# Altium integrated library Microchip Wireless.IntLib: 91 symbols (part 2 of 3)
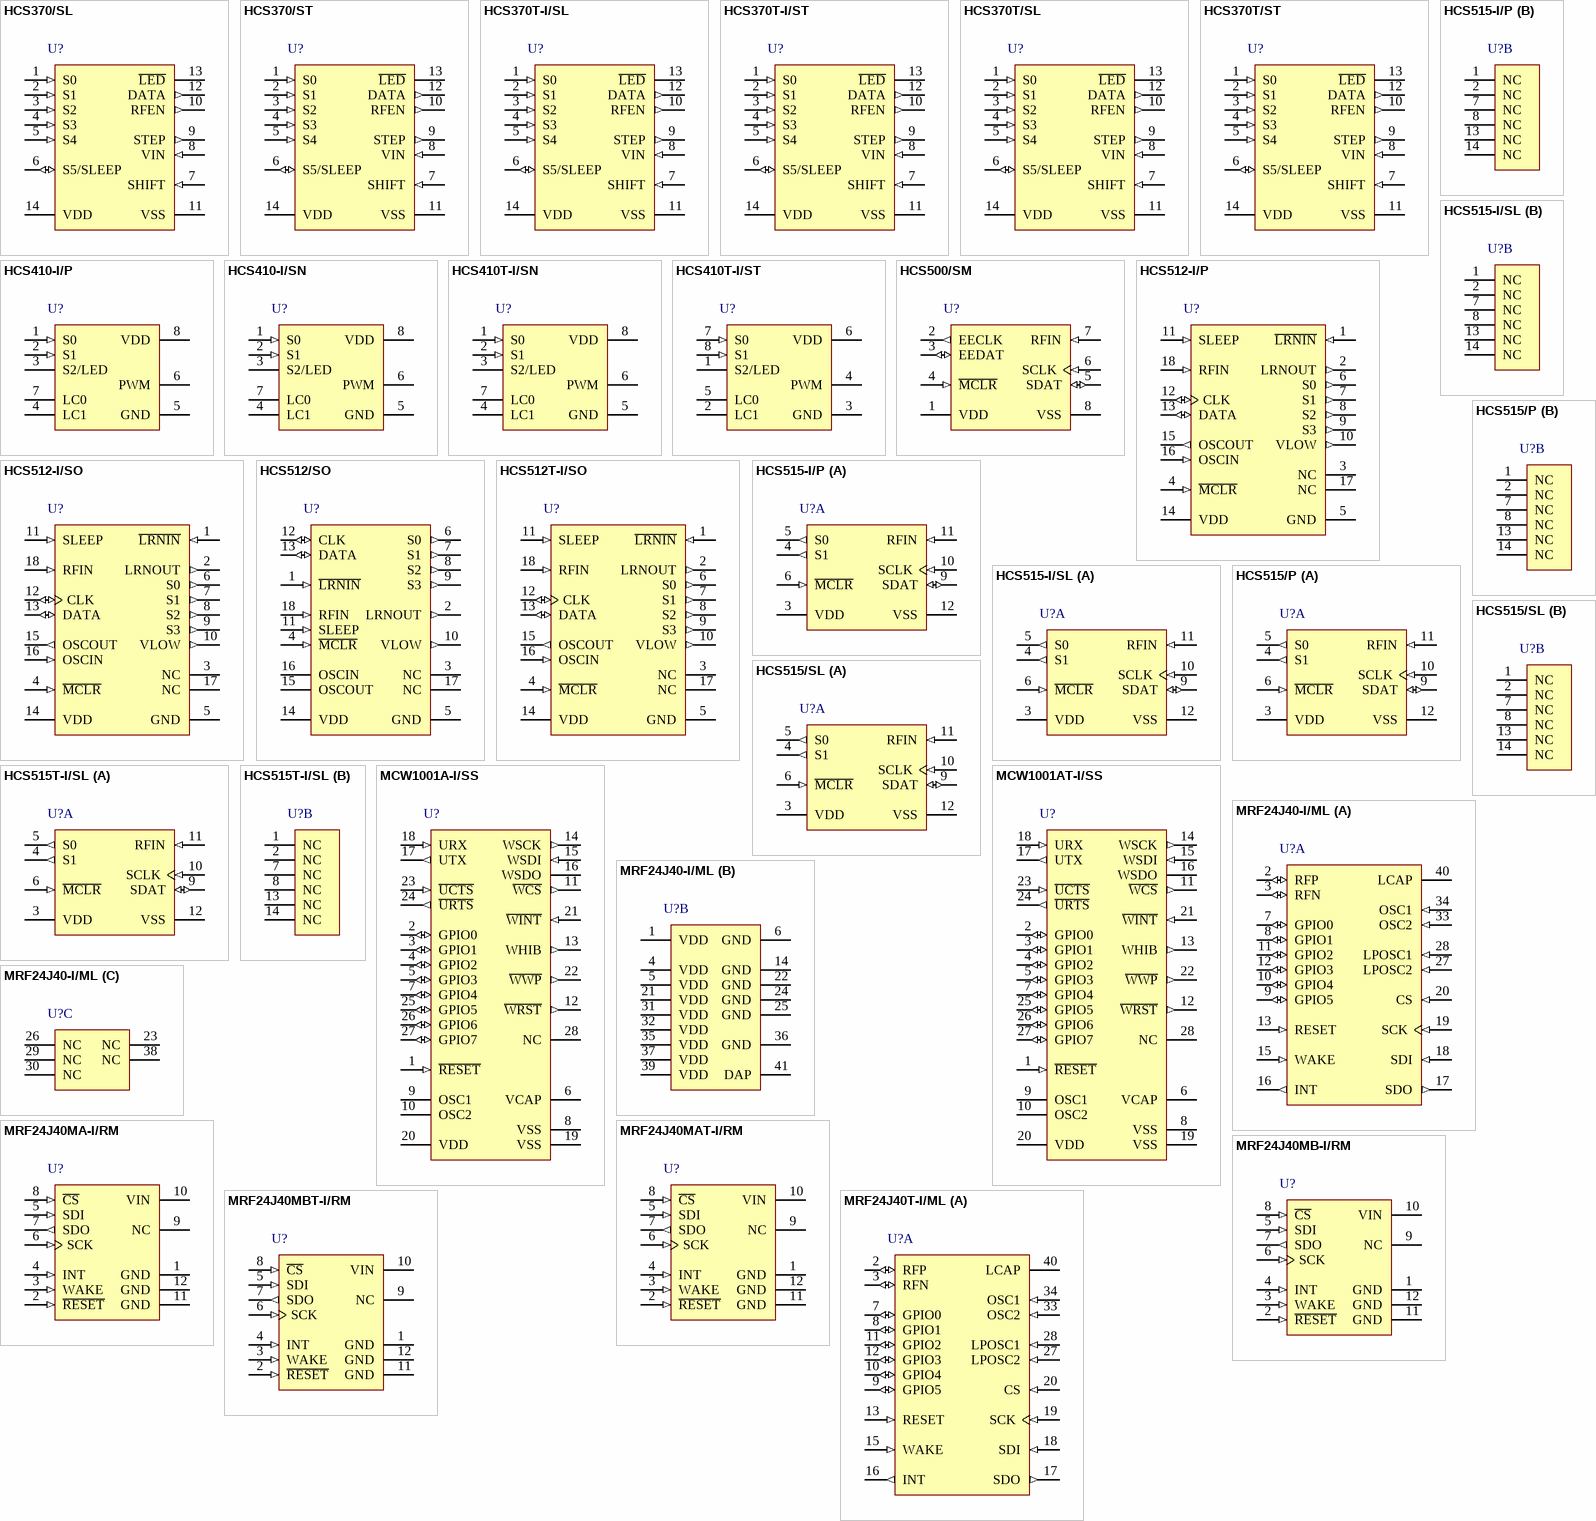
[diagram p4: symbols HCS370/SL to MRF24J40T-I/ML]

## HCS370/ST
designator U?
KEELOQ® Code Hopping Encoder, 14-Pin TSSOP, Commercial Temperature; Manufacturer: Microchip; PartNumber: HCS370/ST; DatasheetVersion: revD, Mar-2002; PackageVersion: revBB, Aug-2009; PackageReference: TSSOP-ST14; PackageDescription: 14-Lead Plastic Thin Shrink Small Outline (ST) - 4.4mm Body [TSSOP]; Supplier 1: Digi-Key; Supplier Part Number 1: HCS370/ST-ND; Supplier 2: Mouser; Supplier Part Number 2: 579-HCS370/ST; Mounting Technology: Surface Mount; ComponentLink1Description: Manufacturer URL; ComponentLink1URL: http://www.microchip.com/; ComponentLink2Description: Datasheet; ComponentLink2URL: http://ww1.microchip.com/downloads/en/DeviceDoc/41111d.pdf; ComponentLink3Description: Package Specification; ComponentLink3URL: http://ww1.microchip.com/downloads/en/PackagingSpec/00049AW.pdf
footprint TSSOP-ST14_N (TSOP, 14-Leads, Body 5x4.4mm, Pitch 0.65mm, IPC Medium Density)
footprint TSSOP-ST14_L (TSOP, 14-Leads, Body 5x4.4mm, Pitch 0.65mm, IPC High Density)
footprint TSSOP-ST14_M (TSOP, 14-Leads, Body 5x4.4mm, Pitch 0.65mm, IPC Low Density)
pins: 1 S0 (in), 2 S1 (in), 3 S2 (in), 4 S3 (in), 5 S4 (in), 6 S5/SLEEP (io), 7 SHIFT (in), 8 VIN (in), 9 STEP (out), 10 RFEN (out), 11 VSS (power), 12 DATA (out), 13 ~{LED} (oc), 14 VDD (power)

## HCS370T-I/SL
designator U?
KEELOQ® Code Hopping Encoder, 14-Pin SOIC 150mil, Industrial Temperature, Tape and Reel; Manufacturer: Microchip; PartNumber: HCS370T-I/SL; DatasheetVersion: revD, Mar-2002; PackageVersion: revBB, Aug-2009; PackageReference: SOIC-SL14; PackageDescription: 14-Lead Plastic Small Outline (SL) - Narrow, 3.90mm Body [SOIC]; Supplier 1: Digi-Key; Supplier Part Number 1: HCS370T-I/SL-ND; Supplier 2: Mouser; Supplier Part Number 2: 579-HCS370T-I/SL; Mounting Technology: Surface Mount; Code_JEDEC: MS-012-AB; Code_IPC: SOIC127P600-14; ComponentLink1Description: Manufacturer URL; ComponentLink1URL: http://www.microchip.com/; ComponentLink2Description: Datasheet; ComponentLink2URL: http://ww1.microchip.com/downloads/en/DeviceDoc/41111d.pdf; ComponentLink3Description: Package Specification; ComponentLink3URL: http://ww1.microchip.com/downloads/en/PackagingSpec/00049AW.pdf
footprint SOIC-SL14_N (SOIC, 14-Leads, Body 8.7x3.9mm, Pitch 1.27mm, IPC Medium Density)
footprint SOIC-SL14_L (SOIC, 14-Leads, Body 8.7x3.9mm, Pitch 1.27mm, IPC High Density)
footprint SOIC-SL14_M (SOIC, 14-Leads, Body 8.7x3.9mm, Pitch 1.27mm, IPC Low Density)
pins: 1 S0 (in), 2 S1 (in), 3 S2 (in), 4 S3 (in), 5 S4 (in), 6 S5/SLEEP (io), 7 SHIFT (in), 8 VIN (in), 9 STEP (out), 10 RFEN (out), 11 VSS (power), 12 DATA (out), 13 ~{LED} (oc), 14 VDD (power)

## HCS370T-I/ST
designator U?
KEELOQ® Code Hopping Encoder, 14-Pin TSSOP, Industrial Temperature, Tape and Reel; Manufacturer: Microchip; PartNumber: HCS370T-I/ST; DatasheetVersion: revD, Mar-2002; PackageVersion: revBB, Aug-2009; PackageReference: TSSOP-ST14; PackageDescription: 14-Lead Plastic Thin Shrink Small Outline (ST) - 4.4mm Body [TSSOP]; Supplier 1: Digi-Key; Supplier Part Number 1: HCS370T-I/ST-ND; Supplier 2: Mouser; Supplier Part Number 2: 579-HCS370T-I/ST; Mounting Technology: Surface Mount; ComponentLink1Description: Manufacturer URL; ComponentLink1URL: http://www.microchip.com/; ComponentLink2Description: Datasheet; ComponentLink2URL: http://ww1.microchip.com/downloads/en/DeviceDoc/41111d.pdf; ComponentLink3Description: Package Specification; ComponentLink3URL: http://ww1.microchip.com/downloads/en/PackagingSpec/00049AW.pdf
footprint TSSOP-ST14_N (TSOP, 14-Leads, Body 5x4.4mm, Pitch 0.65mm, IPC Medium Density)
footprint TSSOP-ST14_L (TSOP, 14-Leads, Body 5x4.4mm, Pitch 0.65mm, IPC High Density)
footprint TSSOP-ST14_M (TSOP, 14-Leads, Body 5x4.4mm, Pitch 0.65mm, IPC Low Density)
pins: 1 S0 (in), 2 S1 (in), 3 S2 (in), 4 S3 (in), 5 S4 (in), 6 S5/SLEEP (io), 7 SHIFT (in), 8 VIN (in), 9 STEP (out), 10 RFEN (out), 11 VSS (power), 12 DATA (out), 13 ~{LED} (oc), 14 VDD (power)

## HCS370T/SL
designator U?
KEELOQ® Code Hopping Encoder, 14-Pin SOIC 150mil, Commercial Temperature, Tape and Reel; Manufacturer: Microchip; PartNumber: HCS370T/SL; DatasheetVersion: revD, Mar-2002; PackageVersion: revBB, Aug-2009; PackageReference: SOIC-SL14; PackageDescription: 14-Lead Plastic Small Outline (SL) - Narrow, 3.90mm Body [SOIC]; Supplier 1: Digi-Key; Supplier Part Number 1: HCS370T/SL-ND; Supplier 2: Mouser; Supplier Part Number 2: 579-HCS370T/SL; Mounting Technology: Surface Mount; Code_JEDEC: MS-012-AB; Code_IPC: SOIC127P600-14; ComponentLink1Description: Manufacturer URL; ComponentLink1URL: http://www.microchip.com/; ComponentLink2Description: Datasheet; ComponentLink2URL: http://ww1.microchip.com/downloads/en/DeviceDoc/41111d.pdf; ComponentLink3Description: Package Specification; ComponentLink3URL: http://ww1.microchip.com/downloads/en/PackagingSpec/00049AW.pdf
footprint SOIC-SL14_N (SOIC, 14-Leads, Body 8.7x3.9mm, Pitch 1.27mm, IPC Medium Density)
footprint SOIC-SL14_L (SOIC, 14-Leads, Body 8.7x3.9mm, Pitch 1.27mm, IPC High Density)
footprint SOIC-SL14_M (SOIC, 14-Leads, Body 8.7x3.9mm, Pitch 1.27mm, IPC Low Density)
pins: 1 S0 (in), 2 S1 (in), 3 S2 (in), 4 S3 (in), 5 S4 (in), 6 S5/SLEEP (io), 7 SHIFT (in), 8 VIN (in), 9 STEP (out), 10 RFEN (out), 11 VSS (power), 12 DATA (out), 13 ~{LED} (oc), 14 VDD (power)

## HCS370T/ST
designator U?
KEELOQ® Code Hopping Encoder, 14-Pin TSSOP, Commercial Temperature, Tape and Reel; Manufacturer: Microchip; PartNumber: HCS370T/ST; DatasheetVersion: revD, Mar-2002; PackageVersion: revBB, Aug-2009; PackageReference: TSSOP-ST14; PackageDescription: 14-Lead Plastic Thin Shrink Small Outline (ST) - 4.4mm Body [TSSOP]; Supplier 1: Digi-Key; Supplier Part Number 1: HCS370T/ST-ND; Supplier 2: Mouser; Supplier Part Number 2: 579-HCS370T/ST; Mounting Technology: Surface Mount; ComponentLink1Description: Manufacturer URL; ComponentLink1URL: http://www.microchip.com/; ComponentLink2Description: Datasheet; ComponentLink2URL: http://ww1.microchip.com/downloads/en/DeviceDoc/41111d.pdf; ComponentLink3Description: Package Specification; ComponentLink3URL: http://ww1.microchip.com/downloads/en/PackagingSpec/00049AW.pdf
footprint TSSOP-ST14_N (TSOP, 14-Leads, Body 5x4.4mm, Pitch 0.65mm, IPC Medium Density)
footprint TSSOP-ST14_L (TSOP, 14-Leads, Body 5x4.4mm, Pitch 0.65mm, IPC High Density)
footprint TSSOP-ST14_M (TSOP, 14-Leads, Body 5x4.4mm, Pitch 0.65mm, IPC Low Density)
pins: 1 S0 (in), 2 S1 (in), 3 S2 (in), 4 S3 (in), 5 S4 (in), 6 S5/SLEEP (io), 7 SHIFT (in), 8 VIN (in), 9 STEP (out), 10 RFEN (out), 11 VSS (power), 12 DATA (out), 13 ~{LED} (oc), 14 VDD (power)

## HCS410-I/P
designator U?
KEELOQ® Code Hopping Encoder and Transponder, 8-Pin PDIP, Industrial Temperature; Manufacturer: Microchip; PartNumber: HCS410-I/P; DatasheetVersion: revE, Apr-2003; PackageVersion: revBB, Aug-2009; PackageReference: PDIP300-P8; PackageDescription: 8-Lead Plastic Dual In-Line (P) - 300 mil Body [PDIP]; Supplier 1: Digi-Key; Supplier Part Number 1: HCS410-I/P-ND; Supplier 2: Mouser; Supplier Part Number 2: 579-HCS410-I/P; Mounting Technology: Through Hole; Code_JEDEC: MS-001; ComponentLink1Description: Manufacturer URL; ComponentLink1URL: http://www.microchip.com/; ComponentLink2Description: Datasheet; ComponentLink2URL: http://ww1.microchip.com/downloads/en/DeviceDoc/40158e.pdf; ComponentLink3Description: Package Specification; ComponentLink3URL: http://ww1.microchip.com/downloads/en/PackagingSpec/00049AW.pdf
footprint PDIP300-P8 (DIP, 8-Leads, Row Spacing 7.62mm, Pitch 2.54mm, Body 9.5x6.6mm)
pins: 1 S0 (in), 2 S1 (in), 3 S2/LED, 4 LC1, 5 GND (power), 6 PWM, 7 LC0, 8 VDD (power)

## HCS410-I/SN
designator U?
KEELOQ® Code Hopping Encoder and Transponder, 8-Pin SOIC, Industrial Temperature; Manufacturer: Microchip; PartNumber: HCS410-I/SN; DatasheetVersion: revE, Apr-2003; PackageVersion: revBB, Aug-2009; PackageReference: SOIC-SN8; PackageDescription: 8-Lead Plastic Small Outline (SN) - Narrow, 3.90mm Body [SOIC]; Supplier 1: Digi-Key; Supplier Part Number 1: HCS410-I/SN-ND; Supplier 2: Newark; Supplier Part Number 2: 96K3680; Supplier 3: Mouser; Supplier Part Number 3: 579-HCS410-I/SN; Mounting Technology: Surface Mount; Code_JEDEC: MS-012; Code_IPC: SOIC127P600-8; ComponentLink1Description: Manufacturer URL; ComponentLink1URL: http://www.microchip.com/; ComponentLink2Description: Datasheet; ComponentLink2URL: http://ww1.microchip.com/downloads/en/DeviceDoc/40158e.pdf; ComponentLink3Description: Package Specification; ComponentLink3URL: http://ww1.microchip.com/downloads/en/PackagingSpec/00049AW.pdf
footprint SOIC-SN8_N (SOIC, 8-Leads, Body 4.9x3.8mm, Pitch 1.27mm, IPC Medium Density)
footprint SOIC-SN8_L (SOIC, 8-Leads, Body 4.9x3.8mm, Pitch 1.27mm, IPC High Density)
footprint SOIC-SN8_M (SOIC, 8-Leads, Body 4.9x3.8mm, Pitch 1.27mm, IPC Low Density)
pins: 1 S0 (in), 2 S1 (in), 3 S2/LED, 4 LC1, 5 GND (power), 6 PWM, 7 LC0, 8 VDD (power)

## HCS410T-I/SN
designator U?
KEELOQ® Code Hopping Encoder and Transponder, 8-Pin SOIC, Industrial Temperature, Tape and Reel; Manufacturer: Microchip; PartNumber: HCS410T-I/SN; DatasheetVersion: revE, Apr-2003; PackageVersion: revBB, Aug-2009; PackageReference: SOIC-SN8; PackageDescription: 8-Lead Plastic Small Outline (SN) - Narrow, 3.90mm Body [SOIC]; Supplier 1: Digi-Key; Supplier Part Number 1: HCS410T-I/SN-ND; Supplier 2: Mouser; Supplier Part Number 2: 579-HCS410T-I/SN; Mounting Technology: Surface Mount; Code_JEDEC: MS-012; Code_IPC: SOIC127P600-8; ComponentLink1Description: Manufacturer URL; ComponentLink1URL: http://www.microchip.com/; ComponentLink2Description: Datasheet; ComponentLink2URL: http://ww1.microchip.com/downloads/en/DeviceDoc/40158e.pdf; ComponentLink3Description: Package Specification; ComponentLink3URL: http://ww1.microchip.com/downloads/en/PackagingSpec/00049AW.pdf
footprint SOIC-SN8_N (SOIC, 8-Leads, Body 4.9x3.8mm, Pitch 1.27mm, IPC Medium Density)
footprint SOIC-SN8_L (SOIC, 8-Leads, Body 4.9x3.8mm, Pitch 1.27mm, IPC High Density)
footprint SOIC-SN8_M (SOIC, 8-Leads, Body 4.9x3.8mm, Pitch 1.27mm, IPC Low Density)
pins: 1 S0 (in), 2 S1 (in), 3 S2/LED, 4 LC1, 5 GND (power), 6 PWM, 7 LC0, 8 VDD (power)

## HCS410T-I/ST
designator U?
KEELOQ® Code Hopping Encoder and Transponder, 8-Pin TSSOP, Industrial Temperature, Tape and Reel; Manufacturer: Microchip; PartNumber: HCS410T-I/ST; DatasheetVersion: revE, Apr-2003; PackageVersion: revBB, Aug-2009; PackageReference: TSSOP-ST8; PackageDescription: 8-Lead Plastic Thin Shrink Small Outline (ST) - 4.4mm Body [TSSOP]; Supplier 1: Digi-Key; Supplier Part Number 1: HCS410T-I/ST-ND; Supplier 2: Mouser; Supplier Part Number 2: 579-HCS410T-I/ST; Mounting Technology: Surface Mount; Code_JEDEC: MO-153; ComponentLink1Description: Manufacturer URL; ComponentLink1URL: http://www.microchip.com/; ComponentLink2Description: Datasheet; ComponentLink2URL: http://ww1.microchip.com/downloads/en/DeviceDoc/40158e.pdf; ComponentLink3Description: Package Specification; ComponentLink3URL: http://ww1.microchip.com/downloads/en/PackagingSpec/00049AW.pdf
footprint TSSOP-ST8_N (TSOP, 8-Leads, Body 3x4.4mm, Pitch 0.65mm, IPC Medium Density)
footprint TSSOP-ST8_L (TSOP, 8-Leads, Body 3x4.4mm, Pitch 0.65mm, IPC High Density)
footprint TSSOP-ST8_M (TSOP, 8-Leads, Body 3x4.4mm, Pitch 0.65mm, IPC Low Density)
pins: 1 S2/LED, 2 LC1, 3 GND (power), 4 PWM, 5 LC0, 6 VDD (power), 7 S0 (in), 8 S1 (in)

## HCS500/SM
designator U?
KEELOQ® Code Hopping Decoder, 8-Pin SOIC 208mil, Commercial Temperature; Manufacturer: Microchip; PartNumber: HCS500/SM; DatasheetVersion: revC, Jan-2002; PackageVersion: revBB, Aug-2009; PackageReference: SOIJ-SM8; PackageDescription: 8-Lead Plastic Small Outline (SM) - Medium, 5.28 mm Body [SOIJ]; Supplier 1: Digi-Key; Supplier Part Number 1: HCS500/SM-ND; Supplier 2: Mouser; Supplier Part Number 2: 579-HCS500/SM; Mounting Technology: Surface Mount; ComponentLink1Description: Manufacturer URL; ComponentLink1URL: http://www.microchip.com/; ComponentLink2Description: Datasheet; ComponentLink2URL: http://ww1.microchip.com/downloads/en/DeviceDoc/40153c.pdf; ComponentLink3Description: Package Specification; ComponentLink3URL: http://ww1.microchip.com/downloads/en/PackagingSpec/00049AW.pdf
footprint SOIJ-SM8_N (SOP, 8-Leads, Body 5.2x5.2mm, Pitch 1.27mm, IPC Medium Density)
footprint SOIJ-SM8_L (SOP, 8-Leads, Body 5.2x5.2mm, Pitch 1.27mm, IPC High Density)
footprint SOIJ-SM8_M (SOP, 8-Leads, Body 5.2x5.2mm, Pitch 1.27mm, IPC Low Density)
pins: 1 VDD (power), 2 EECLK (out), 3 EEDAT (io), 4 ~{MCLR} (in), 5 SDAT (io), 6 SCLK (in), 7 RFIN (in), 8 VSS (power)

## HCS512-I/P
designator U?
KEELOQ® Code Hopping Decoder, 18-Pin PDIP, Industrial Temperature; Manufacturer: Microchip; PartNumber: HCS512-I/P; DatasheetVersion: revD, Jan-2002; PackageVersion: revBB, Aug-2009; PackageReference: PDIP300-P18; PackageDescription: 18-Lead Plastic Dual In-Line (P) - 300 mil Body [PDIP]; Supplier 1: Digi-Key; Supplier Part Number 1: HCS512-I/P-ND; Supplier 2: Newark; Supplier Part Number 2: 96K3683; Supplier 3: Mouser; Supplier Part Number 3: 579-HCS512-I/P; Mounting Technology: Through Hole; Code_JEDEC: MS-001; ComponentLink1Description: Manufacturer URL; ComponentLink1URL: http://www.microchip.com/; ComponentLink2Description: Datasheet; ComponentLink2URL: http://ww1.microchip.com/downloads/en/DeviceDoc/40151d.pdf; ComponentLink3Description: Package Specification; ComponentLink3URL: http://ww1.microchip.com/downloads/en/PackagingSpec/00049AW.pdf
footprint PDIP300-P18 (DIP, 18-Leads, Row Spacing 7.62mm, Pitch 2.54mm, Body 22.9x6.6mm)
pins: 1 ~{LRNIN} (in), 2 LRNOUT (out), 3 NC, 4 ~{MCLR} (in), 5 GND (power), 6 S0 (out), 7 S1 (out), 8 S2 (out), 9 S3 (out), 10 VLOW (out), 11 SLEEP (in), 12 CLK (io), 13 DATA (io), 14 VDD (power), 15 OSCOUT (out), 16 OSCIN (in), 17 NC, 18 RFIN (in)

## HCS512-I/SO
designator U?
KEELOQ® Code Hopping Decoder, 18-Pin SOIC 300mil, Industrial Temperature; Manufacturer: Microchip; PartNumber: HCS512-I/SO; DatasheetVersion: revD, Jan-2002; PackageVersion: revBB, Aug-2009; PackageReference: SOIC-SO18; PackageDescription: 18-Lead Plastic Small Outline (SO) - Wide 7.50mm Body [SOIC]; Supplier 1: Digi-Key; Supplier Part Number 1: HCS512-I/SO-ND; Supplier 2: Newark; Supplier Part Number 2: 33C0785; Supplier 3: Mouser; Supplier Part Number 3: 579-HCS512-I/SO; Mounting Technology: Surface Mount; Code_JEDEC: MS-013; ComponentLink1Description: Manufacturer URL; ComponentLink1URL: http://www.microchip.com/; ComponentLink2Description: Datasheet; ComponentLink2URL: http://ww1.microchip.com/downloads/en/DeviceDoc/40151d.pdf; ComponentLink3Description: Package Specification; ComponentLink3URL: http://ww1.microchip.com/downloads/en/PackagingSpec/00049AW.pdf
footprint SOIC-SO18_N (SOIC, 18-Leads, Body 11.5x7.5mm, Pitch 1.27mm, IPC Medium Density)
footprint SOIC-SO18_L (SOIC, 18-Leads, Body 11.5x7.5mm, Pitch 1.27mm, IPC High Density)
footprint SOIC-SO18_M (SOIC, 18-Leads, Body 11.5x7.5mm, Pitch 1.27mm, IPC Low Density)
pins: 1 ~{LRNIN} (in), 2 LRNOUT (out), 3 NC, 4 ~{MCLR} (in), 5 GND (power), 6 S0 (out), 7 S1 (out), 8 S2 (out), 9 S3 (out), 10 VLOW (out), 11 SLEEP (in), 12 CLK (io), 13 DATA (io), 14 VDD (power), 15 OSCOUT (out), 16 OSCIN (in), 17 NC, 18 RFIN (in)

## HCS512/SO
designator U?
KEELOQ® Code Hopping Decoder, 4 to 6 V, 0 to 70 degC, 18-pin SOIC (SO18), Tube; Manufacturer: Microchip; PartNumber: HCS512/SO; DatasheetVersion: Rev. E; PackageVersion: C04-051C; PackageReference: SOIC-SO18; PackageDescription: 18-Lead Plastic Small Outline, 7.5 x 11.55 mm Body, 1.27 mm Pitch; Supplier 1: Digi-Key; Supplier Part Number 1: HCS512/SO-ND; Supplier 2: Newark; Supplier Part Number 2: 35C5208; Supplier 3: Mouser; Supplier Part Number 3: 579-HCS512/SO; Mounting Technology: Surface Mount; ComponentLink1Description: Manufacturer URL; ComponentLink1URL: http://www.microchip.com; ComponentLink2Description: Datasheet; ComponentLink2URL: http://ww1.microchip.com/downloads/en/DeviceDoc/40151E.pdf; ComponentLink3Description: Package Specification; ComponentLink3URL: http://www.microchip.com/stellent/groups/techpub_sg/documents/packagingspec/en012702.pdf; ComponentLink4Description: Product URL; ComponentLink4URL: http://www.microchip.com/HCS512
footprint MCHP-SOIC-SO18_N (SOIC, 18-Leads, Body 11.55x7.5mm, Pitch 1.27mm, IPC Medium Density)
footprint MCHP-SOIC-SO18_L (SOIC, 18-Leads, Body 11.55x7.5mm, Pitch 1.27mm, IPC High Density)
footprint MCHP-SOIC-SO18_M (SOIC, 18-Leads, Body 11.55x7.5mm, Pitch 1.27mm, IPC Low Density)
pins: 1 ~{LRNIN} (in) "Learn input - initiates learning, 10K pull-up required on input", 2 LRNOUT (out) "Learn output - indicates learning", 3 NC "Do not connect", 4 ~{MCLR} (in) "Master clear input", 5 GND (power) "Ground connection", 6 S0 (out) "Switch 0", 7 S1 (out) "Switch 1", 8 S2 (out) "Switch 2", 9 S3 (out) "Switch 3", 10 VLOW (out) "Battery low indication output", 11 SLEEP (in) "Connect to RFIN to allow wake-up from SLEEP", 12 CLK (io) "Clock in Programming mode and Synchronous mode", 13 DATA (io) "Data in Programming mode and Synchronous mode", 14 VDD (power) "Power connection", 15 OSCOUT "Oscillator out (test point)", 16 OSCIN "Oscillator in - recommended values 4.7 k ohm and 22 pF", 17 NC "Do not connect", 18 RFIN (in) "RF input from receiver"

## HCS512T-I/SO
designator U?
KEELOQ® Code Hopping Decoder, 18-Pin SOIC 300mil, Industrial Temperature, Tape and Reel; Manufacturer: Microchip; PartNumber: HCS512T-I/SO; DatasheetVersion: revD, Jan-2002; PackageVersion: revBB, Aug-2009; PackageReference: SOIC-SO18; PackageDescription: 18-Lead Plastic Small Outline (SO) - Wide 7.50mm Body [SOIC]; Supplier 1: Digi-Key; Supplier Part Number 1: HCS512T-I/SO-ND; Supplier 2: Mouser; Supplier Part Number 2: 579-HCS512T-I/SO; Mounting Technology: Surface Mount; Code_JEDEC: MS-013; ComponentLink1Description: Manufacturer URL; ComponentLink1URL: http://www.microchip.com/; ComponentLink2Description: Datasheet; ComponentLink2URL: http://ww1.microchip.com/downloads/en/DeviceDoc/40151d.pdf; ComponentLink3Description: Package Specification; ComponentLink3URL: http://ww1.microchip.com/downloads/en/PackagingSpec/00049AW.pdf
footprint SOIC-SO18_N (SOIC, 18-Leads, Body 11.5x7.5mm, Pitch 1.27mm, IPC Medium Density)
footprint SOIC-SO18_L (SOIC, 18-Leads, Body 11.5x7.5mm, Pitch 1.27mm, IPC High Density)
footprint SOIC-SO18_M (SOIC, 18-Leads, Body 11.5x7.5mm, Pitch 1.27mm, IPC Low Density)
pins: 1 ~{LRNIN} (in), 2 LRNOUT (out), 3 NC, 4 ~{MCLR} (in), 5 GND (power), 6 S0 (out), 7 S1 (out), 8 S2 (out), 9 S3 (out), 10 VLOW (out), 11 SLEEP (in), 12 CLK (io), 13 DATA (io), 14 VDD (power), 15 OSCOUT (out), 16 OSCIN (in), 17 NC, 18 RFIN (in)

## HCS515-I/P
designator U?
KEELOQ® Code Hopping Decoder, 14-Pin PDIP, Industrial Temperature; Manufacturer: Microchip; PartNumber: HCS515-I/P; DatasheetVersion: revD, Jan-2002; PackageVersion: revBB, Aug-2009; PackageReference: PDIP300-P14; PackageDescription: 14-Lead Plastic Dual In-Line (P) - 300 mil Body [PDIP]; Supplier 1: Digi-Key; Supplier Part Number 1: HCS515-I/P-ND; Supplier 2: Newark; Supplier Part Number 2: 96K3685; Supplier 3: Mouser; Supplier Part Number 3: 579-HCS515-I/P; Mounting Technology: Through Hole; ComponentLink1Description: Manufacturer URL; ComponentLink1URL: http://www.microchip.com/; ComponentLink2Description: Datasheet; ComponentLink2URL: http://ww1.microchip.com/downloads/en/DeviceDoc/40183d.pdf; ComponentLink3Description: Package Specification; ComponentLink3URL: http://ww1.microchip.com/downloads/en/PackagingSpec/00049AW.pdf
footprint PDIP300-P14 (DIP, 14-Leads, Row Spacing 7.62mm, Pitch 2.54mm, Body 19.2x6.6mm)
part A pins: 3 VDD (power), 4 S1 (out), 5 S0 (out), 6 ~{MCLR} (in), 9 SDAT (io), 10 SCLK (in), 11 RFIN (in), 12 VSS (power)
part B pins: 1 NC, 2 NC, 7 NC, 8 NC, 13 NC, 14 NC

## HCS515-I/SL
designator U?
KEELOQ® Code Hopping Decoder, 14-Pin SOIC 150mil, Industrial Temperature; Manufacturer: Microchip; PartNumber: HCS515-I/SL; DatasheetVersion: revD, Jan-2002; PackageVersion: revBB, Aug-2009; PackageReference: SOIC-SL14; PackageDescription: 14-Lead Plastic Small Outline (SL) - Narrow, 3.90mm Body [SOIC]; Supplier 1: Digi-Key; Supplier Part Number 1: HCS515-I/SL-ND; Supplier 2: Newark; Supplier Part Number 2: 74K5119; Supplier 3: Mouser; Supplier Part Number 3: 579-HCS515-I/SL; Mounting Technology: Surface Mount; Code_JEDEC: MS-012-AB; Code_IPC: SOIC127P600-14; ComponentLink1Description: Manufacturer URL; ComponentLink1URL: http://www.microchip.com/; ComponentLink2Description: Datasheet; ComponentLink2URL: http://ww1.microchip.com/downloads/en/DeviceDoc/40183d.pdf; ComponentLink3Description: Package Specification; ComponentLink3URL: http://ww1.microchip.com/downloads/en/PackagingSpec/00049AW.pdf
footprint SOIC-SL14_N (SOIC, 14-Leads, Body 8.7x3.9mm, Pitch 1.27mm, IPC Medium Density)
footprint SOIC-SL14_L (SOIC, 14-Leads, Body 8.7x3.9mm, Pitch 1.27mm, IPC High Density)
footprint SOIC-SL14_M (SOIC, 14-Leads, Body 8.7x3.9mm, Pitch 1.27mm, IPC Low Density)
part A pins: 3 VDD (power), 4 S1 (out), 5 S0 (out), 6 ~{MCLR} (in), 9 SDAT (io), 10 SCLK (in), 11 RFIN (in), 12 VSS (power)
part B pins: 1 NC, 2 NC, 7 NC, 8 NC, 13 NC, 14 NC

## HCS515/P
designator U?
KEELOQ® Code Hopping Decoder, 14-Pin PDIP, Commercial Temperature; Manufacturer: Microchip; PartNumber: HCS515/P; DatasheetVersion: revD, Jan-2002; PackageVersion: revBB, Aug-2009; PackageReference: PDIP300-P14; PackageDescription: 14-Lead Plastic Dual In-Line (P) - 300 mil Body [PDIP]; Supplier 1: Digi-Key; Supplier Part Number 1: HCS515/P-ND; Supplier 2: Newark; Supplier Part Number 2: 96K3686; Supplier 3: Mouser; Supplier Part Number 3: 579-HCS515/P; Mounting Technology: Through Hole; ComponentLink1Description: Manufacturer URL; ComponentLink1URL: http://www.microchip.com/; ComponentLink2Description: Datasheet; ComponentLink2URL: http://ww1.microchip.com/downloads/en/DeviceDoc/40183d.pdf; ComponentLink3Description: Package Specification; ComponentLink3URL: http://ww1.microchip.com/downloads/en/PackagingSpec/00049AW.pdf
footprint PDIP300-P14 (DIP, 14-Leads, Row Spacing 7.62mm, Pitch 2.54mm, Body 19.2x6.6mm)
part A pins: 3 VDD (power), 4 S1 (out), 5 S0 (out), 6 ~{MCLR} (in), 9 SDAT (io), 10 SCLK (in), 11 RFIN (in), 12 VSS (power)
part B pins: 1 NC, 2 NC, 7 NC, 8 NC, 13 NC, 14 NC

## HCS515/SL
designator U?
KEELOQ® Code Hopping Decoder, 14-Pin SOIC 150mil, Commercial Temperature; Manufacturer: Microchip; PartNumber: HCS515/SL; DatasheetVersion: revD, Jan-2002; PackageVersion: revBB, Aug-2009; PackageReference: SOIC-SL14; PackageDescription: 14-Lead Plastic Small Outline (SL) - Narrow, 3.90mm Body [SOIC]; Supplier 1: Digi-Key; Supplier Part Number 1: HCS515/SL-ND; Supplier 2: Newark; Supplier Part Number 2: 69K7598; Supplier 3: Mouser; Supplier Part Number 3: 579-HCS515/SL; Mounting Technology: Surface Mount; Code_JEDEC: MS-012-AB; Code_IPC: SOIC127P600-14; ComponentLink1Description: Manufacturer URL; ComponentLink1URL: http://www.microchip.com/; ComponentLink2Description: Datasheet; ComponentLink2URL: http://ww1.microchip.com/downloads/en/DeviceDoc/40183d.pdf; ComponentLink3Description: Package Specification; ComponentLink3URL: http://ww1.microchip.com/downloads/en/PackagingSpec/00049AW.pdf
footprint SOIC-SL14_N (SOIC, 14-Leads, Body 8.7x3.9mm, Pitch 1.27mm, IPC Medium Density)
footprint SOIC-SL14_L (SOIC, 14-Leads, Body 8.7x3.9mm, Pitch 1.27mm, IPC High Density)
footprint SOIC-SL14_M (SOIC, 14-Leads, Body 8.7x3.9mm, Pitch 1.27mm, IPC Low Density)
part A pins: 3 VDD (power), 4 S1 (out), 5 S0 (out), 6 ~{MCLR} (in), 9 SDAT (io), 10 SCLK (in), 11 RFIN (in), 12 VSS (power)
part B pins: 1 NC, 2 NC, 7 NC, 8 NC, 13 NC, 14 NC

## HCS515T-I/SL
designator U?
KEELOQ® Code Hopping Decoder, 14-Pin SOIC 150mil, Industrial Temperature, Tape and Reel; Manufacturer: Microchip; PartNumber: HCS515T-I/SL; DatasheetVersion: revD, Jan-2002; PackageVersion: revBB, Aug-2009; PackageReference: SOIC-SL14; PackageDescription: 14-Lead Plastic Small Outline (SL) - Narrow, 3.90mm Body [SOIC]; Supplier 1: Digi-Key; Supplier Part Number 1: HCS515T-I/SL-ND; Supplier 2: Mouser; Supplier Part Number 2: 579-HCS515T-I/SL; Mounting Technology: Surface Mount; Code_JEDEC: MS-012-AB; Code_IPC: SOIC127P600-14; ComponentLink1Description: Manufacturer URL; ComponentLink1URL: http://www.microchip.com/; ComponentLink2Description: Datasheet; ComponentLink2URL: http://ww1.microchip.com/downloads/en/DeviceDoc/40183d.pdf; ComponentLink3Description: Package Specification; ComponentLink3URL: http://ww1.microchip.com/downloads/en/PackagingSpec/00049AW.pdf
footprint SOIC-SL14_N (SOIC, 14-Leads, Body 8.7x3.9mm, Pitch 1.27mm, IPC Medium Density)
footprint SOIC-SL14_L (SOIC, 14-Leads, Body 8.7x3.9mm, Pitch 1.27mm, IPC High Density)
footprint SOIC-SL14_M (SOIC, 14-Leads, Body 8.7x3.9mm, Pitch 1.27mm, IPC Low Density)
part A pins: 3 VDD (power), 4 S1 (out), 5 S0 (out), 6 ~{MCLR} (in), 9 SDAT (io), 10 SCLK (in), 11 RFIN (in), 12 VSS (power)
part B pins: 1 NC, 2 NC, 7 NC, 8 NC, 13 NC, 14 NC

## MCW1001A-I/SS
designator U?
TCP / IP Socket Communications Interface with GPIO, 2.7 to 3.6 V, -40 to 85 degC, 28-pin SSOP (SS28), Tube; Manufacturer: Microchip; PartNumber: MCW1001A-I/SS; DatasheetVersion: Rev. A; PackageVersion: C04-073B; PackageReference: SSOP-SS28; PackageDescription: 28-Lead Plastic Shrink Small Outline, 10.2 x 5.3 mm Body, 0.65 mm Pitch; Supplier 1: Digi-Key; Supplier Part Number 1: MCW1001A-I/SS-ND; Supplier 2: Farnell; Supplier Part Number 2: 2096396; Supplier 3: Newark; Supplier Part Number 3: 93T7731; Supplier 4: Newark; Supplier Part Number 4: 76T2239; Supplier 5: Mouser; Supplier Part Number 5: 579-MCW1001A-I/SS; Mounting Technology: Surface Mount; ComponentLink1Description: Manufacturer URL; ComponentLink1URL: http://www.microchip.com; ComponentLink2Description: Datasheet; ComponentLink2URL: http://ww1.microchip.com/downloads/en/DeviceDoc/70671A.pdf; ComponentLink3Description: Package Specification; ComponentLink3URL: http://www.microchip.com/stellent/groups/techpub_sg/documents/packagingspec/en012702.pdf; ComponentLink4Description: Product URL; ComponentLink4URL: http://www.microchip.com/MCW1001A
footprint MCHP-SSOP-SS28_N (SOP, 28-Leads, Body 10.2x5.3mm, Pitch 0.65mm, IPC Medium Density)
footprint MCHP-SSOP-SS28_L (SOP, 28-Leads, Body 10.2x5.3mm, Pitch 0.65mm, IPC High Density)
footprint MCHP-SSOP-SS28_M (SOP, 28-Leads, Body 10.2x5.3mm, Pitch 0.65mm, IPC Low Density)
pins: 1 ~{RESET} (in) "Active-low Reset to the device.", 2 GPIO0 (io) "General-purpose I/O", 3 GPIO1 (io) "General-purpose I/O", 4 GPIO2 (io) "General-purpose I/O", 5 GPIO3 (io) "General-purpose I/O", 6 VCAP "External filter capacitor connection for internal regulator", 7 GPIO4 (io) "General-purpose I/O", 8 VSS (power) "Ground", 9 OSC1 "Oscillator input", 10 OSC2 "Oscillator output", 11 ~{WCS} (out) "SPI Slave select output to MRF24WB0M", 12 ~{WRST} (out) "External Reset output control to MRF24WB0M", 13 WHIB (out) "HIBERNATE mode enable output to MRF24WB0M", 14 WSCK (out) "SPI clock output to MRF24WB0M", 15 WSDI (in) "SPI data input from MRF24WB0M", 16 WSDO (hiz) "SPI data output to MRF24WB0M", 17 UTX (out) "USART asynchronous transmit", 18 URX (in) "USART asynchronous receive", 19 VSS (power) "Ground", 20 VDD (power) "Power", 21 ~{WINT} (in) "External interrupt from MRF24WMB0", 22 ~{WWP} (out) "External write protect control to MRF24WB0M", 23 ~{UCTS} (in) "USART asynchronous clear to send (optional)", 24 ~{URTS} (out) "USART asynchronous request to send (optional)", 25 GPIO5 (io) "General-purpose I/O", 26 GPIO6 (io) "General-purpose I/O", 27 GPIO7 (io) "General-purpose I/O", 28 NC "No Connect"

## MCW1001AT-I/SS
designator U?
TCP / IP Socket Communications Interface with GPIO, 2.7 to 3.6 V, -40 to 85 degC, 28-pin SSOP (SS28), Tape and Reel; Manufacturer: Microchip; PartNumber: MCW1001AT-I/SS; DatasheetVersion: Rev. A; PackageVersion: C04-073B; PackageReference: SSOP-SS28; PackageDescription: 28-Lead Plastic Shrink Small Outline, 10.2 x 5.3 mm Body, 0.65 mm Pitch; Supplier 1: Digi-Key; Supplier Part Number 1: MCW1001AT-I/SS-ND; Supplier 2: Newark; Supplier Part Number 2: 76T2240; Supplier 3: Mouser; Supplier Part Number 3: 579-MCW1001AT-I/SS; Mounting Technology: Surface Mount; ComponentLink1Description: Manufacturer URL; ComponentLink1URL: http://www.microchip.com; ComponentLink2Description: Datasheet; ComponentLink2URL: http://ww1.microchip.com/downloads/en/DeviceDoc/70671A.pdf; ComponentLink3Description: Package Specification; ComponentLink3URL: http://www.microchip.com/stellent/groups/techpub_sg/documents/packagingspec/en012702.pdf; ComponentLink4Description: Product URL; ComponentLink4URL: http://www.microchip.com/MCW1001A
footprint MCHP-SSOP-SS28_N (SOP, 28-Leads, Body 10.2x5.3mm, Pitch 0.65mm, IPC Medium Density)
footprint MCHP-SSOP-SS28_L (SOP, 28-Leads, Body 10.2x5.3mm, Pitch 0.65mm, IPC High Density)
footprint MCHP-SSOP-SS28_M (SOP, 28-Leads, Body 10.2x5.3mm, Pitch 0.65mm, IPC Low Density)
pins: 1 ~{RESET} (in) "Active-low Reset to the device.", 2 GPIO0 (io) "General-purpose I/O", 3 GPIO1 (io) "General-purpose I/O", 4 GPIO2 (io) "General-purpose I/O", 5 GPIO3 (io) "General-purpose I/O", 6 VCAP "External filter capacitor connection for internal regulator", 7 GPIO4 (io) "General-purpose I/O", 8 VSS (power) "Ground", 9 OSC1 "Oscillator input", 10 OSC2 "Oscillator output", 11 ~{WCS} (out) "SPI Slave select output to MRF24WB0M", 12 ~{WRST} (out) "External Reset output control to MRF24WB0M", 13 WHIB (out) "HIBERNATE mode enable output to MRF24WB0M", 14 WSCK (out) "SPI clock output to MRF24WB0M", 15 WSDI (in) "SPI data input from MRF24WB0M", 16 WSDO (hiz) "SPI data output to MRF24WB0M", 17 UTX (out) "USART asynchronous transmit", 18 URX (in) "USART asynchronous receive", 19 VSS (power) "Ground", 20 VDD (power) "Power", 21 ~{WINT} (in) "External interrupt from MRF24WMB0", 22 ~{WWP} (out) "External write protect control to MRF24WB0M", 23 ~{UCTS} (in) "USART asynchronous clear to send (optional)", 24 ~{URTS} (out) "USART asynchronous request to send (optional)", 25 GPIO5 (io) "General-purpose I/O", 26 GPIO6 (io) "General-purpose I/O", 27 GPIO7 (io) "General-purpose I/O", 28 NC "No Connect"

## MRF24J40-I/ML
designator U?
2.4 GHz IEEE Std. 802.15.4, RF Transceiver, 40-Pin QFN, Industrial Temperature; Manufacturer: Microchip; PartNumber: MRF24J40-I/ML; DatasheetVersion: revB, Oct-2008; PackageVersion: revBB, Aug-2009; PackageReference: QFN-ML40; PackageDescription: 40-Lead Plastic Quad Flat, No Lead Package (ML) - 6x6x0.9 mm Body [QFN]; Supplier 1: Digi-Key; Supplier Part Number 1: MRF24J40-I/ML-ND; Supplier 2: Farnell; Supplier Part Number 2: 1436019; Supplier 3: Newark; Supplier Part Number 3: 17M0699; Supplier 4: Mouser; Supplier Part Number 4: 579-MRF24J40-I/ML; Mounting Technology: Surface Mount; ComponentLink1Description: Manufacturer URL; ComponentLink1URL: http://www.microchip.com/; ComponentLink2Description: Datasheet; ComponentLink2URL: http://ww1.microchip.com/downloads/en/DeviceDoc/39776b.pdf; ComponentLink3Description: Package Specification; ComponentLink3URL: http://www.microchip.com/stellent/groups/techpub_sg/documents/packagingspec/en012702.pdf
footprint QFN-ML40_N (QFN, 40-Leads, Body 6x6mm, Pitch 0.5mm, Thermal Pad 4.8x4.8mm, IPC Medium Density)
footprint QFN-ML40_L (QFN, 40-Leads, Body 6x6mm, Pitch 0.5mm, Thermal Pad 4.8x4.8mm, IPC High Density)
footprint QFN-ML40_M (QFN, 40-Leads, Body 6x6mm, Pitch 0.5mm, Thermal Pad 4.8x4.8mm, IPC Low Density)
part A pins: 2 RFP (io) "Differential RF input/output (+).", 3 RFN (io) "Differential RF input/output (-).", 7 GPIO0 (io) "General purpose digital I/O, also used as external PA enable.", 8 GPIO1 (io) "General purpose digital I/O, also used as external TX/RX switch control.", 9 GPIO5 (io) "General purpose digital I/O.", 10 GPIO4 (io) "General purpose digital I/O.", 11 GPIO2 (io) "General purpose digital I/O, also used as external TX/RX switch control.", 12 GPIO3 (io) "General purpose digital I/O.", 13 RESET (in) "Global hardware Reset pin active-low.", 15 WAKE (in) "External wake-up trigger (must be enabled in software).", 16 INT (out) "Interrupt pin to microcontroller.", 17 SDO (out) "Serial interface data output from MRF24J40.", 18 SDI (in) "Serial interface data input to MRF24J40.", 19 SCK (in) "Serial interface clock.", 20 CS (in) "Serial interface enable.", 27 LPOSC2 (in) "32 kHz crystal input.", 28 LPOSC1 (in) "32 kHz crystal input.", 33 OSC2 (in) "20 MHz crystal input", 34 OSC1 (in) "20 MHz crystal input", 40 LCAP "PLL loop filter external capacitor. Connected to external 100 pF capacitor."
part B pins: 1 VDD (power) "RF power supply. Bypass with a capacitor as close to the pin as possible.", 4 VDD (power) "RF power supply. Bypass with a capacitor as close to the pin as possible.", 5 VDD (power) "Guard ring power supply. Bypass with a capacitor as close to the pin as possible.", 6 GND (power) "Guard ring ground.", 14 GND (power) "Ground for digital circuit.", 21 VDD (power) "Digital circuit power supply. Bypass with a capacitor as close to the pin as possible.", 22 GND (power) "Ground for digital circuit.", 24 GND (power) "Ground for digital circuit.", 25 GND (power) "Ground for digital circuit.", 31 VDD (power) "Power supply for band gap reference circuit. Bypass with a capacitor as close to the pin as possible.", 32 VDD (power) "Power supply for analog circuit. Bypass with a capacitor as close to the pin as possible.", 35 VDD (power) "PLL power supply. Bypass with a capacitor as close to the pin as possible.", 36 GND (power) "Ground for PLL.", 37 VDD (power) "Charge pump power supply. Bypass with a capacitor as close to the pin as possible.", 39 VDD (power) "VCO supply. Bypass with a capacitor as close to the pin as possible.", 41 DAP (power)
part C pins: 23 NC "No Connection.", 26 NC "No Connection. (Allow pin to float; do not connect signal.)", 29 NC "No Connection. (Allow pin to float; do not connect signal.)", 30 NC "No Connection. (Allow pin to float; do not connect signal.)", 38 NC "No Connection."

## MRF24J40MA-I/RM
designator U?
2.4 GHz IEEE Std. 802.15.4, RF Transceiver 12-Pin Module, Industrial Temperature; Manufacturer: Microchip; PartNumber: MRF24J40MA-I/RM; DatasheetVersion: revB, Nov-2008; PackageVersion: Nov-2008; PackageReference: MRF24J40MA; PackageDescription: Transceiver Module; SM; 12 Leads; Body 1.1 x 0.7 x 0.067" (LxWxH), 0.1" Pitch; Supplier 1: Digi-Key; Supplier Part Number 1: MRF24J40MA-I/RM-ND; Supplier 2: Farnell; Supplier Part Number 2: 1630202MPKG; Supplier 3: Farnell; Supplier Part Number 3: 1630202; Supplier 4: Newark; Supplier Part Number 4: 07P9585; Supplier 5: Mouser; Supplier Part Number 5: 579-MRF24J40MA-I/RM; Mounting Technology: Surface Mount; ComponentLink1Description: Manufacturer URL; ComponentLink1URL: http://www.microchip.com/; ComponentLink2Description: Datasheet; ComponentLink2URL: http://ww1.microchip.com/downloads/en/DeviceDoc/70329b.pdf; ComponentLink3Description: Package Specification; ComponentLink3URL: http://www.microchip.com/stellent/groups/techpub_sg/documents/packagingspec/en012702.pdf
footprint MRF24J40MA (SM Module; 12 Leads; Body 27.9x17.8x1.7mm (LxWxH), Microchip Recommended)
pins: 1 GND (power), 2 ~{RESET} (in), 3 WAKE (in), 4 INT (in), 5 SDI (in), 6 SCK (in), 7 SDO (out), 8 ~{CS} (in), 9 NC, 10 VIN (power), 11 GND (power), 12 GND (power)

## MRF24J40MAT-I/RM
designator U?
2.4 GHz IEEE Std. 802.15.4, RF Transceiver 12-Pin Module, Industrial Temperature, Tape and Reel; Manufacturer: Microchip; PartNumber: MRF24J40MAT-I/RM; DatasheetVersion: revB, Nov-2008; PackageVersion: Nov-2008; PackageReference: MRF24J40MA; PackageDescription: Transceiver Module; SM; 12 Leads; Body 1.1 x 0.7 x 0.067" (LxWxH), 0.1" Pitch; Supplier 1: Digi-Key; Supplier Part Number 1: MRF24J40MAT-I/RM-ND; Supplier 2: Newark; Supplier Part Number 2: 07P9586; Supplier 3: Mouser; Supplier Part Number 3: 579-MRF24J40MAT-I/RM; Mounting Technology: Surface Mount; ComponentLink1Description: Manufacturer URL; ComponentLink1URL: http://www.microchip.com/; ComponentLink2Description: Datasheet; ComponentLink2URL: http://ww1.microchip.com/downloads/en/DeviceDoc/70329b.pdf; ComponentLink3Description: Package Specification; ComponentLink3URL: http://www.microchip.com/stellent/groups/techpub_sg/documents/packagingspec/en012702.pdf
footprint MRF24J40MA (SM Module; 12 Leads; Body 27.9x17.8x1.7mm (LxWxH), Microchip Recommended)
pins: 1 GND (power), 2 ~{RESET} (in), 3 WAKE (in), 4 INT (in), 5 SDI (in), 6 SCK (in), 7 SDO (out), 8 ~{CS} (in), 9 NC, 10 VIN (power), 11 GND (power), 12 GND (power)

## MRF24J40MB-I/RM
designator U?
2.4 GHz IEEE Std. 802.15.4, 20 dBm RF Transceiver 12-Pin Module, Industrial Temperature; Manufacturer: Microchip; PartNumber: MRF24J40MB-I/RM; DatasheetVersion: revB, Aug-2009; PackageVersion: Aug-2009; PackageReference: MRF24J40MB; PackageDescription: Transceiver Module; SM; 12 Leads; Body 1.3 x 0.9 x 0.1" (LxWxH), 0.1" Pitch; Supplier 1: Digi-Key; Supplier Part Number 1: MRF24J40MB-I/RM-ND; Supplier 2: Farnell; Supplier Part Number 2: 1755199MPKG; Supplier 3: Farnell; Supplier Part Number 3: 1755199; Supplier 4: Newark; Supplier Part Number 4: 14R8960; Supplier 5: Mouser; Supplier Part Number 5: 579-MRF24J40MB-I/RM; Mounting Technology: Surface Mount; ComponentLink1Description: Manufacturer URL; ComponentLink1URL: http://www.microchip.com/; ComponentLink2Description: Datasheet; ComponentLink2URL: http://ww1.microchip.com/downloads/en/DeviceDoc/70599B.pdf; ComponentLink3Description: Package Specification; ComponentLink3URL: http://www.microchip.com/stellent/groups/techpub_sg/documents/packagingspec/en012702.pdf
footprint MRF24J40MB (SM Module; 12 Leads; Body 33x22.9x2.5mm (LxWxH), Microchip Recommended)
pins: 1 GND (power), 2 ~{RESET} (in), 3 WAKE (in), 4 INT (in), 5 SDI (in), 6 SCK (in), 7 SDO (out), 8 ~{CS} (in), 9 NC, 10 VIN (power), 11 GND (power), 12 GND (power)

## MRF24J40MBT-I/RM
designator U?
2.4 GHz IEEE Std. 802.15.4, 20 dBm RF Transceiver 12-Pin Module, Industrial Temperature, Tape and Reel; Manufacturer: Microchip; PartNumber: MRF24J40MBT-I/RM; DatasheetVersion: revB, Aug-2009; PackageVersion: Aug-2009; PackageReference: MRF24J40MB; PackageDescription: Transceiver Module; SM; 12 Leads; Body 1.3 x 0.9 x 0.1" (LxWxH), 0.1" Pitch; Supplier 1: Digi-Key; Supplier Part Number 1: MRF24J40MBT-I/RM-ND; Supplier 2: Newark; Supplier Part Number 2: 14R8961; Supplier 3: Mouser; Supplier Part Number 3: 579-MRF24J40MBT-I/RM; Mounting Technology: Surface Mount; ComponentLink1Description: Manufacturer URL; ComponentLink1URL: http://www.microchip.com/; ComponentLink2Description: Datasheet; ComponentLink2URL: http://ww1.microchip.com/downloads/en/DeviceDoc/70599B.pdf; ComponentLink3Description: Package Specification; ComponentLink3URL: http://www.microchip.com/stellent/groups/techpub_sg/documents/packagingspec/en012702.pdf
footprint MRF24J40MB (SM Module; 12 Leads; Body 33x22.9x2.5mm (LxWxH), Microchip Recommended)
pins: 1 GND (power), 2 ~{RESET} (in), 3 WAKE (in), 4 INT (in), 5 SDI (in), 6 SCK (in), 7 SDO (out), 8 ~{CS} (in), 9 NC, 10 VIN (power), 11 GND (power), 12 GND (power)

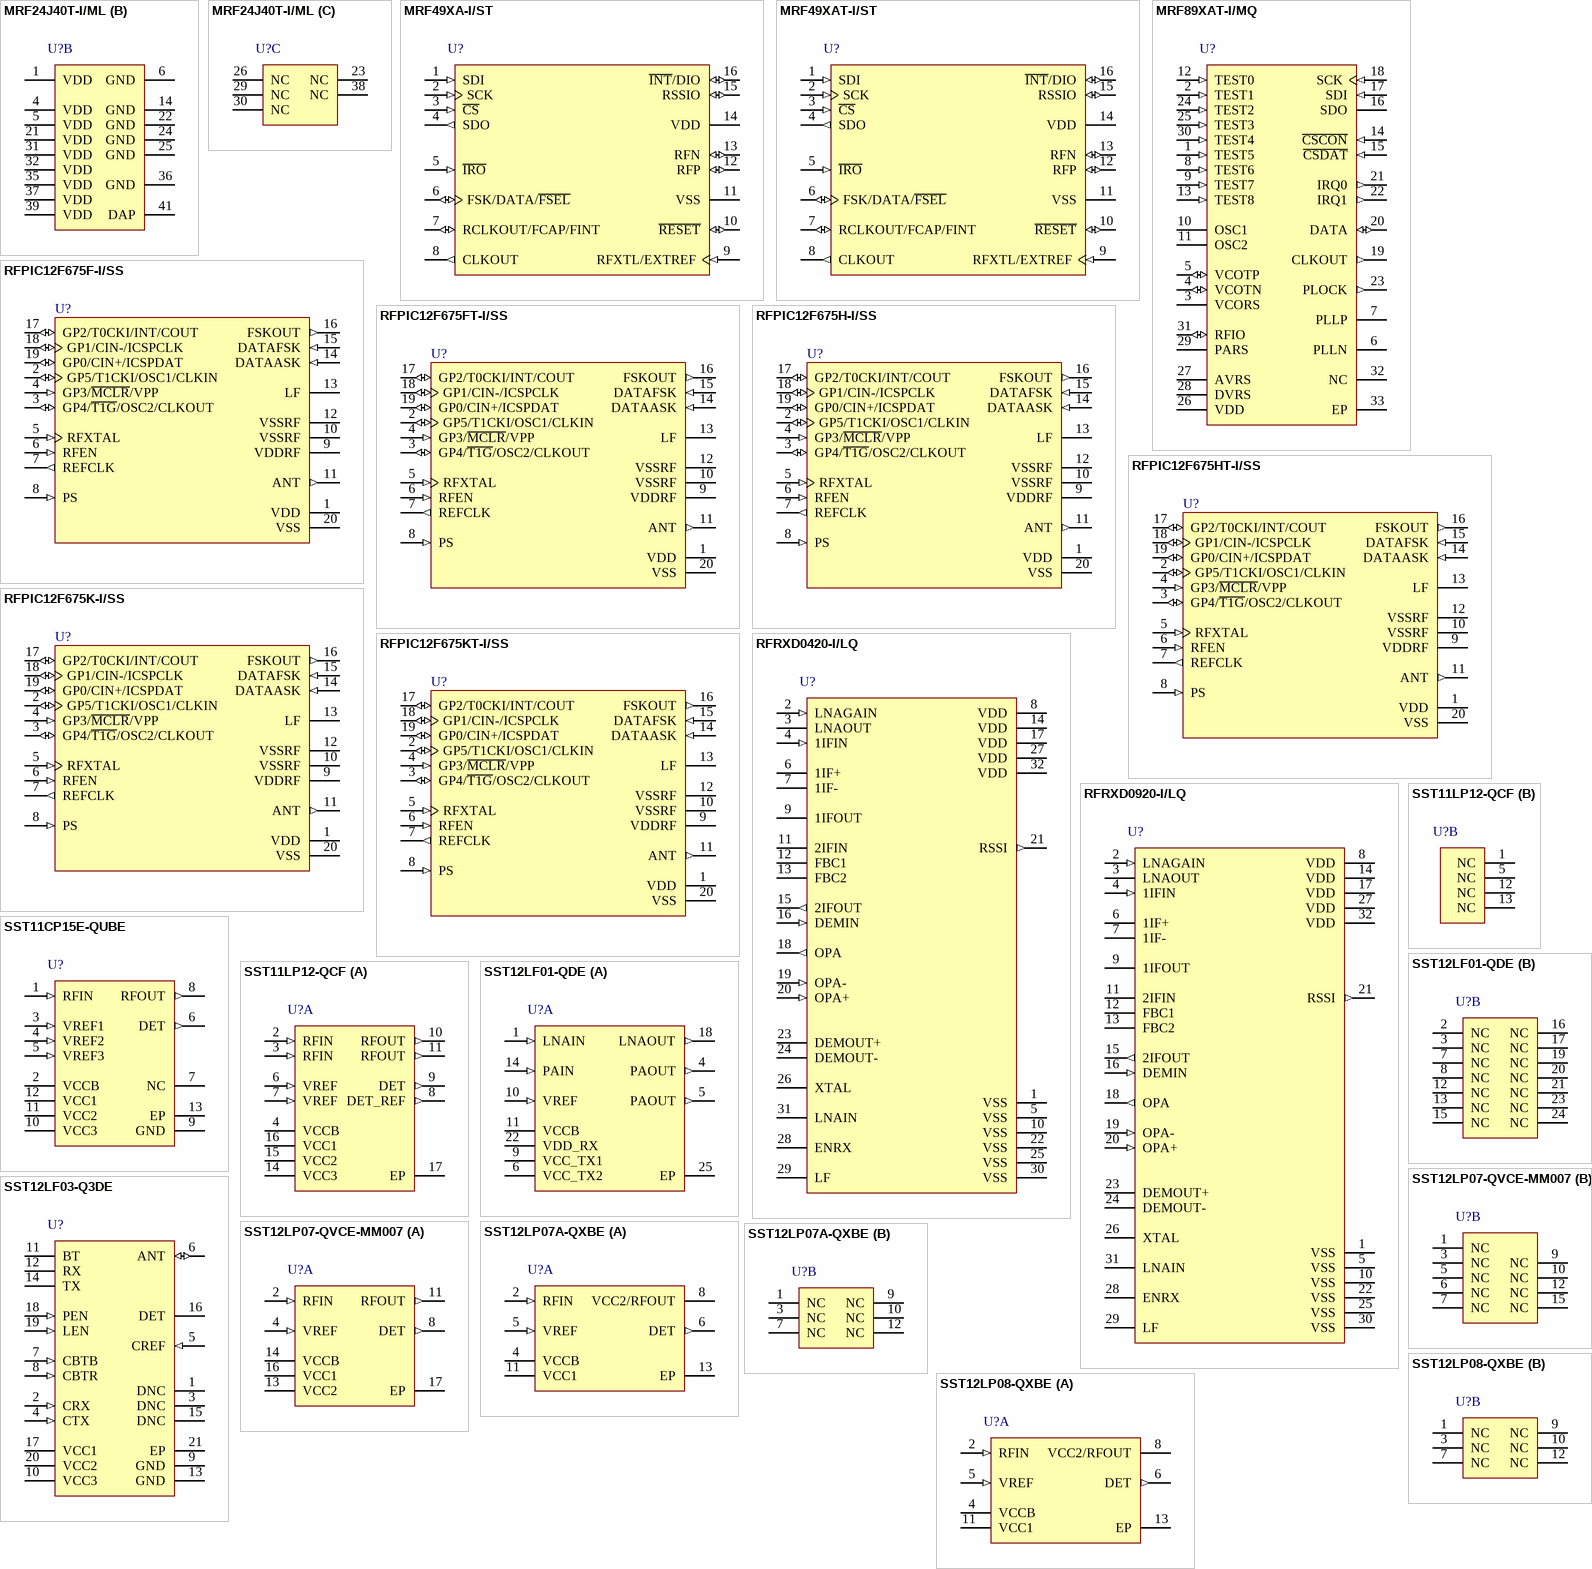
[diagram p2: symbols MRF24J40T-I/ML to SST12LP08-QXBE]

## MRF24J40T-I/ML
designator U?
2.4 GHz IEEE Std. 802.15.4, RF Transceiver, 40-Pin QFN, Industrial Temperature, Tape and Reel; Manufacturer: Microchip; PartNumber: MRF24J40T-I/ML; DatasheetVersion: revB, Oct-2008; PackageVersion: revBB, Aug-2009; PackageReference: QFN-ML40; PackageDescription: 40-Lead Plastic Quad Flat, No Lead Package (ML) - 6x6x0.9 mm Body [QFN]; Supplier 1: Digi-Key; Supplier Part Number 1: MRF24J40T-I/ML-ND; Supplier 2: Mouser; Supplier Part Number 2: 579-MRF24J40T-I/ML; Mounting Technology: Surface Mount; ComponentLink1Description: Manufacturer URL; ComponentLink1URL: http://www.microchip.com/; ComponentLink2Description: Datasheet; ComponentLink2URL: http://ww1.microchip.com/downloads/en/DeviceDoc/39776b.pdf; ComponentLink3Description: Package Specification; ComponentLink3URL: http://www.microchip.com/stellent/groups/techpub_sg/documents/packagingspec/en012702.pdf
footprint QFN-ML40_N (QFN, 40-Leads, Body 6x6mm, Pitch 0.5mm, Thermal Pad 4.8x4.8mm, IPC Medium Density)
footprint QFN-ML40_L (QFN, 40-Leads, Body 6x6mm, Pitch 0.5mm, Thermal Pad 4.8x4.8mm, IPC High Density)
footprint QFN-ML40_M (QFN, 40-Leads, Body 6x6mm, Pitch 0.5mm, Thermal Pad 4.8x4.8mm, IPC Low Density)
part A pins: 2 RFP (io) "Differential RF input/output (+).", 3 RFN (io) "Differential RF input/output (-).", 7 GPIO0 (io) "General purpose digital I/O, also used as external PA enable.", 8 GPIO1 (io) "General purpose digital I/O, also used as external TX/RX switch control.", 9 GPIO5 (io) "General purpose digital I/O.", 10 GPIO4 (io) "General purpose digital I/O.", 11 GPIO2 (io) "General purpose digital I/O, also used as external TX/RX switch control.", 12 GPIO3 (io) "General purpose digital I/O.", 13 RESET (in) "Global hardware Reset pin active-low.", 15 WAKE (in) "External wake-up trigger (must be enabled in software).", 16 INT (out) "Interrupt pin to microcontroller.", 17 SDO (out) "Serial interface data output from MRF24J40.", 18 SDI (in) "Serial interface data input to MRF24J40.", 19 SCK (in) "Serial interface clock.", 20 CS (in) "Serial interface enable.", 27 LPOSC2 (in) "32 kHz crystal input.", 28 LPOSC1 (in) "32 kHz crystal input.", 33 OSC2 (in) "20 MHz crystal input", 34 OSC1 (in) "20 MHz crystal input", 40 LCAP "PLL loop filter external capacitor. Connected to external 100 pF capacitor."
part B pins: 1 VDD (power) "RF power supply. Bypass with a capacitor as close to the pin as possible.", 4 VDD (power) "RF power supply. Bypass with a capacitor as close to the pin as possible.", 5 VDD (power) "Guard ring power supply. Bypass with a capacitor as close to the pin as possible.", 6 GND (power) "Guard ring ground.", 14 GND (power) "Ground for digital circuit.", 21 VDD (power) "Digital circuit power supply. Bypass with a capacitor as close to the pin as possible.", 22 GND (power) "Ground for digital circuit.", 24 GND (power) "Ground for digital circuit.", 25 GND (power) "Ground for digital circuit.", 31 VDD (power) "Power supply for band gap reference circuit. Bypass with a capacitor as close to the pin as possible.", 32 VDD (power) "Power supply for analog circuit. Bypass with a capacitor as close to the pin as possible.", 35 VDD (power) "PLL power supply. Bypass with a capacitor as close to the pin as possible.", 36 GND (power) "Ground for PLL.", 37 VDD (power) "Charge pump power supply. Bypass with a capacitor as close to the pin as possible.", 39 VDD (power) "VCO supply. Bypass with a capacitor as close to the pin as possible.", 41 DAP (power)
part C pins: 23 NC "No Connection.", 26 NC "No Connection. (Allow pin to float; do not connect signal.)", 29 NC "No Connection. (Allow pin to float; do not connect signal.)", 30 NC "No Connection. (Allow pin to float; do not connect signal.)", 38 NC "No Connection."

## MRF49XA-I/ST
designator U?
ISM Band Sub-GHz RF Transceiver, 16-Pin TSSOP, Industrial Temperature; Manufacturer: Microchip; PartNumber: MRF49XA-I/ST; DatasheetVersion: revB, Jun-2009; PackageVersion: revBB, Aug-2009; PackageReference: TSSOP-ST16; PackageDescription: 16-Lead Plastic Thin Shrink Small Outline (ST) - 4.4mm Body [TSSOP]; Supplier 1: Digi-Key; Supplier Part Number 1: MRF49XA-I/ST-ND; Supplier 2: Farnell; Supplier Part Number 2: 1755200; Supplier 3: Newark; Supplier Part Number 3: 65T6681; Supplier 4: Mouser; Supplier Part Number 4: 579-MRF49XA-I/ST; Mounting Technology: Surface Mount; Code_JEDEC: MO-153; ComponentLink1Description: Manufacturer URL; ComponentLink1URL: http://www.microchip.com/; ComponentLink2Description: Datasheet; ComponentLink2URL: http://ww1.microchip.com/downloads/en/DeviceDoc/70590B.pdf; ComponentLink3Description: Package Specification; ComponentLink3URL: http://www.microchip.com/stellent/groups/techpub_sg/documents/packagingspec/en012702.pdf
footprint TSSOP-ST16_N (TSOP, 16-Leads, Body 5x4.4mm, Pitch 0.65mm, IPC Medium Density)
footprint TSSOP-ST16_L (TSOP, 16-Leads, Body 5x4.4mm, Pitch 0.65mm, IPC High Density)
footprint TSSOP-ST16_M (TSOP, 16-Leads, Body 5x4.4mm, Pitch 0.65mm, IPC Low Density)
pins: 1 SDI (in), 2 SCK (in), 3 ~{CS} (in), 4 SDO (out), 5 ~{IRO} (in), 6 FSK/DATA/~{FSEL} (io), 7 RCLKOUT/FCAP/FINT (io), 8 CLKOUT (out), 9 RFXTL/EXTREF (in), 10 ~{RESET} (io), 11 VSS (power), 12 RFP (io), 13 RFN (io), 14 VDD (power), 15 RSSIO (io), 16 ~{INT}/DIO (io)

## MRF49XAT-I/ST
designator U?
ISM Band Sub-GHz RF Transceiver, 16-Pin TSSOP, Industrial Temperature, Tape and Reel; Manufacturer: Microchip; PartNumber: MRF49XAT-I/ST; DatasheetVersion: revB, Jun-2009; PackageVersion: revBB, Aug-2009; PackageReference: TSSOP-ST16; PackageDescription: 16-Lead Plastic Thin Shrink Small Outline (ST) - 4.4mm Body [TSSOP]; Supplier 1: Digi-Key; Supplier Part Number 1: MRF49XAT-I/ST-ND; Supplier 2: Newark; Supplier Part Number 2: 08R1858; Supplier 3: Mouser; Supplier Part Number 3: 579-MRF49XAT-I/ST; Mounting Technology: Surface Mount; Code_JEDEC: MO-153; ComponentLink1Description: Manufacturer URL; ComponentLink1URL: http://www.microchip.com/; ComponentLink2Description: Datasheet; ComponentLink2URL: http://ww1.microchip.com/downloads/en/DeviceDoc/70590B.pdf; ComponentLink3Description: Package Specification; ComponentLink3URL: http://www.microchip.com/stellent/groups/techpub_sg/documents/packagingspec/en012702.pdf
footprint TSSOP-ST16_N (TSOP, 16-Leads, Body 5x4.4mm, Pitch 0.65mm, IPC Medium Density)
footprint TSSOP-ST16_L (TSOP, 16-Leads, Body 5x4.4mm, Pitch 0.65mm, IPC High Density)
footprint TSSOP-ST16_M (TSOP, 16-Leads, Body 5x4.4mm, Pitch 0.65mm, IPC Low Density)
pins: 1 SDI (in), 2 SCK (in), 3 ~{CS} (in), 4 SDO (out), 5 ~{IRO} (in), 6 FSK/DATA/~{FSEL} (io), 7 RCLKOUT/FCAP/FINT (io), 8 CLKOUT (out), 9 RFXTL/EXTREF (in), 10 ~{RESET} (io), 11 VSS (power), 12 RFP (io), 13 RFN (io), 14 VDD (power), 15 RSSIO (io), 16 ~{INT}/DIO (io)

## MRF89XAT-I/MQ
designator U?
Ultra Low-Power, Integrated ISM Band, -40 to 85 degC, 32-pin QFN (MQ32), Tape and Reel; Manufacturer: Microchip; PartNumber: MRF89XAT-I/MQ; DatasheetVersion: Rev. C; PackageVersion: Rev. C; PackageReference: QFN-MQ32; PackageDescription: 32-Lead Plastic Quad Flat, No Lead Package, 5 x 5 mm Body, 0.5 mm Pitch; Supplier 1: Digi-Key; Supplier Part Number 1: MRF89XAT-I/MQTR-ND; Supplier 2: Digi-Key; Supplier Part Number 2: MRF89XAT-I/MQCT-ND; Supplier 3: Digi-Key; Supplier Part Number 3: MRF89XAT-I/MQDKR-ND; Supplier 4: Farnell; Supplier Part Number 4: 1960785RL; Supplier 5: Farnell; Supplier Part Number 5: 1960785; Supplier 6: Newark; Supplier Part Number 6: 58T4969; Supplier 7: Newark; Supplier Part Number 7: 66T8775; Supplier 8: Mouser; Supplier Part Number 8: 579-MRF89XAT-I/MQ; Mounting Technology: Surface Mount; ComponentLink1Description: Manufacturer URL; ComponentLink1URL: http://www.microchip.com; ComponentLink2Description: Datasheet; ComponentLink2URL: http://ww1.microchip.com/downloads/en/DeviceDoc/70622C.pdf; ComponentLink3Description: Package Specification; ComponentLink3URL: http://ww1.microchip.com/downloads/en/DeviceDoc/70622C.pdf; ComponentLink4Description: Product URL; ComponentLink4URL: http://www.microchip.com/MRF89XA
footprint MCHP-QFN-MQ32_N (QFN, 32-Leads, Body 5x5mm, Pitch 0.5mm, Thermal Pad 3.1x3.1mm, IPC Medium Density)
footprint MCHP-QFN-MQ32_L (QFN, 32-Leads, Body 5x5mm, Pitch 0.5mm, Thermal Pad 3.1x3.1mm, IPC High Density)
footprint MCHP-QFN-MQ32_M (QFN, 32-Leads, Body 5x5mm, Pitch 0.5mm, Thermal Pad 3.1x3.1mm, IPC Low Density)
pins: 1 TEST5 (in) "Test Pin. Connected to Ground during normal operation.", 2 TEST1 (in) "Test Pin. Connected to Ground during normal operation.", 3 VCORS (power) "Regulated voltage supply of the VCO (0.85V).", 4 VCOTN (io) "VCO tank.", 5 VCOTP (io) "VCO tank.", 6 PLLN "PLL loop filter.", 7 PLLP "PLL loop filter.", 8 TEST6 (in) "Test Pin. Connected to Ground during normal operation.", 9 TEST7 (in) "Test Pin. Connected to Ground during normal operation.", 10 OSC1 "Crystal connection.", 11 OSC2 "Crystal connection.", 12 TEST0 (in) "Test Pin. Connected to Ground during normal operation.", 13 TEST8 (in) "Test Pin. Allow pin to float; do not connect signal during normal operation.", 14 ~{CSCON} (in) "SPI Configure Chip Select.", 15 ~{CSDAT} (in) "SPI Data Chip Select.", 16 SDO (hiz) "Serial data output interface from MRF89XA.", 17 SDI (in) "Serial data input interface to MRF89XA.", 18 SCK (in) "Serial clock interface.", 19 CLKOUT (out) "Clock output. Output clock at reference frequency divided by a programmable factor. Refer to the Clock Output Control Register (Register 2-28) for more information.", 20 DATA (io) "NRZ data input and output (Continuous mode).", 21 IRQ0 (out) "Interrupt request output.", 22 IRQ1 (out) "Interrupt request output.", 23 PLOCK (out) "PLL lock detection output. Refer to the FIFO Transmit PLL and RSSI Interrupt Request Configuration Register (Register 2-15) for more information.", 24 TEST2 (in) "Test Pin. Connected to Ground during normal operation.", 25 TEST3 (in) "Test Pin. Connected to Ground during normal operation.", 26 VDD (power) "Supply voltage.", 27 AVRS (power) "Regulated supply of the analog circuitry (1.0V).", 28 DVRS (power) "Regulated supply of the digital circuitry (1.0V).", 29 PARS (power) "Regulated supply of the PA (1.8V).", 30 TEST4 (in) "Test Pin. Connected to Ground during normal operation.", 31 RFIO (io) "RF input/output (for more information, see Section 2.3, RFIO Pin).", 32 NC "No Connection. Connected to Ground during normal operation.", 33 EP (power) "Exposed Pad. Connected to Ground during normal operation."